# EAGLE library part AT45DB*E-? (library ic-ATMEL)
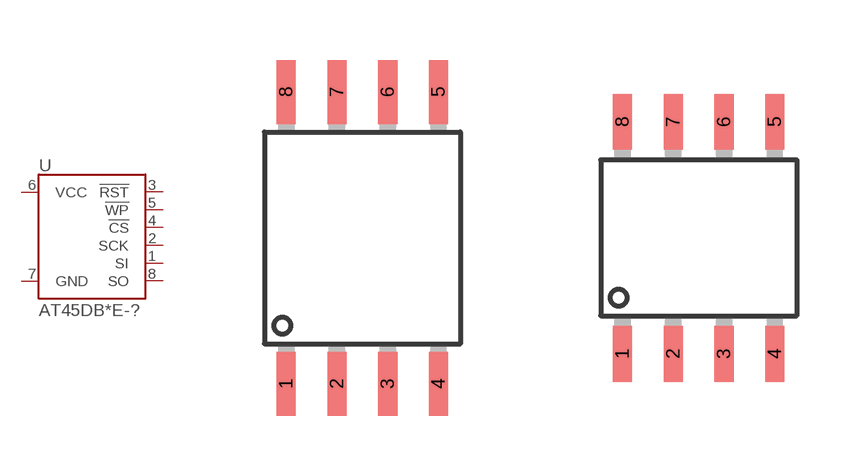
[diagram p3: symbol with the pads of SOP8W; footprints SOP8W, SOP8]

Designator prefix U

## AT45DB021E-S (DENSITY: 2Mb), AT45DB041E-S (DENSITY: 4Mb), AT45DB081E-S (DENSITY: 8Mb), AT45DB161E-S (DENSITY: 16Mb)  [SOP8W]
1  SI
2  SCK
3  !RST
4  !CS
5  !WP
6  VCC
7  GND
8  SO

## AT45DB021E-SS (DENSITY: 2Mb), AT45DB041E-SS (DENSITY: 4Mb), AT45DB081E-SS (DENSITY: 8Mb), AT45DB161E-SS (DENSITY: 16Mb)  [SOP8]
Pads as for SOP8W

## Footprint SOP8W (pad centres in mm)
smd 0.48 x 1.6: 1 -1.905,-3.65; 2 -0.635,-3.65; 3 0.635,-3.65; 4 1.905,-3.65; 5 1.905,3.65; 6 0.635,3.65; 7 -0.635,3.65; 8 -1.905,3.65

## Footprint SOP8 (pad centres in mm)
smd 0.48 x 1.4: 1 -1.905,-2.9; 2 -0.635,-2.9; 3 0.635,-2.9; 4 1.905,-2.9; 5 1.905,2.9; 6 0.635,2.9; 7 -0.635,2.9; 8 -1.905,2.9